# Altium footprint library XHB-BOOMELE_2.5mm.PcbLib: 3 footprints
Each footprint in its own frame and in the unit in brackets; x right, y up, seen from the top. Pads: shape width x height; smd on the part's side, far side on the other; paste and mask are expansions set on the pad; w line width, h text height; cw(c..) or ccw(c..) is an arc to the next point about the centre after c.
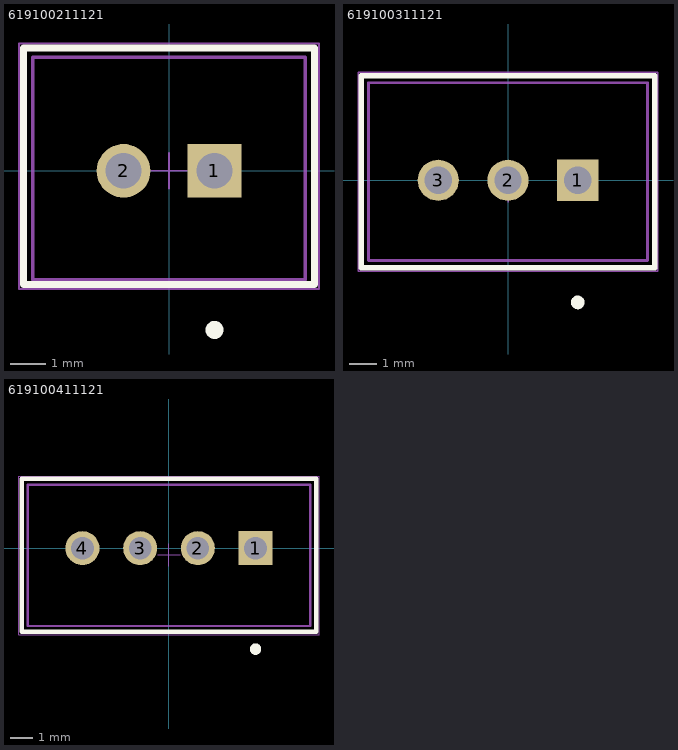
[diagram p0: the footprints below, top view; thin cyan lines are the x and y axes]

## 619100211121 [mm] "2.54mm Male Locking Header, 2p"
height 11.5
pads (2):
  rect 1.5x1.5 hole 1: 1(1.27,0)
  round 1.5 hole 1: 2(-1.27,0)
Top Overlay:
  circle w0.25: c1.27,-4.445 r0.125
  lines w0.2: -4.064,-3.175 4.064,-3.175 4.064,3.429 -4.064,3.429 -4.064,-3.175
Mechanical 13:
  lines w0.1: -3.81,-3.048 3.81,-3.048 3.81,3.175 -3.81,3.175 -3.81,-3.048
Mechanical 15:
  lines w0.05: -0.5,0 0.5,0 ; 0,-0.5 0,0.5 ; -4.191,-3.302 -4.191,3.556 4.191,3.556 4.191,-3.302 -4.191,-3.302
3D body "XHB2.54-2PIN-black-with lock.STEP": height 7.05, standoff -2.95, extent -3.75,-3.025 3.75,3.175

## 619100311121 [mm] "2.54mm Male Locking Header, 3p"
height 11.5
pads (3):
  rect 1.5x1.5 hole 1: 1(2.54,0)
  round 1.5 hole 1: 2(0,0) 3(-2.54,0)
Top Overlay:
  circle w0.25: c2.54,-4.445 r0.125
  lines w0.2: -5.334,-3.175 -5.334,3.81 5.334,3.81 5.334,-3.175 -5.334,-3.175
Mechanical 13:
  lines w0.1: -5.08,-2.921 -5.08,3.556 5.08,3.556 5.08,-2.921 -5.08,-2.921
Mechanical 15:
  lines w0.05: -0.5,-0.3 0.5,-0.3 ; 0,-0.8 0,0.2 ; -5.461,-3.302 5.461,-3.302 5.461,3.937 -5.461,3.937 -5.461,-3.302
3D body "XHB2.54-3PIN-black-with lock.STEP": height 7, standoff -3, extent -5,-2.921 5,3.479

## 619100411121 [mm] "2.54mm Male Locking Header, 4p"
height 11.5
pads (4):
  rect 1.5x1.5 hole 1: 1(3.81,0)
  round 1.5 hole 1: 2(1.27,0) 3(-1.27,0) 4(-3.81,0)
Top Overlay:
  circle w0.25: c3.81,-4.445 r0.125
  lines w0.2: -6.477,-3.683 -6.477,3.048 6.477,3.048 6.477,-3.683 -6.477,-3.683
Mechanical 13:
  lines w0.1: -6.223,-3.429 6.223,-3.429 6.223,2.794 -6.223,2.794 -6.223,-3.429
Mechanical 15:
  lines w0.05: -0.5,-0.3 0.5,-0.3 ; 0,-0.8 0,0.2 ; -6.604,-3.81 6.604,-3.81 6.604,3.175 -6.604,3.175 -6.604,-3.81
3D body "XHB2.54-4PIN-black-with lock.STEP": height 7, standoff -3, extent -6.177,-3.481 6.223,2.719